# EAGLE library part PCF85063TP/1Z (library circuit_tree)
IC
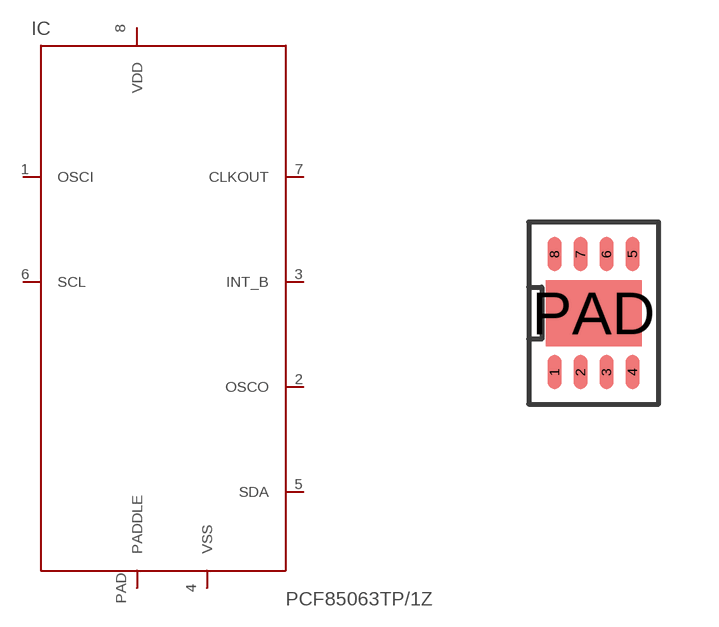
[diagram p7: symbol with the pads of SON-8; footprint SON-8]

Designator prefix IC

## PCF85063TP/1Z  [SON-8]
1  OSCI  pas
2  OSCO  pas
3  INT_B  pas
4  VSS  pas
5  SDA  pas
6  SCL  pas
7  CLKOUT  pas
8  VDD  pas
PAD  PADDLE  pas

## Footprint SON-8 (pad centres in mm)
smd 0.35 x 0.85: 1 -0.975,-1.475; 2 -0.325,-1.475; 3 0.325,-1.475; 4 0.975,-1.475; 5 0.975,1.475; 6 0.325,1.475; 7 -0.325,1.475; 8 -0.975,1.475
smd 2.4 x 1.65: PAD 0,0